# Altium schematic symbol library spacemonochrome-WR_TBL.SchLib: 1696 symbols (part 6 of 28)
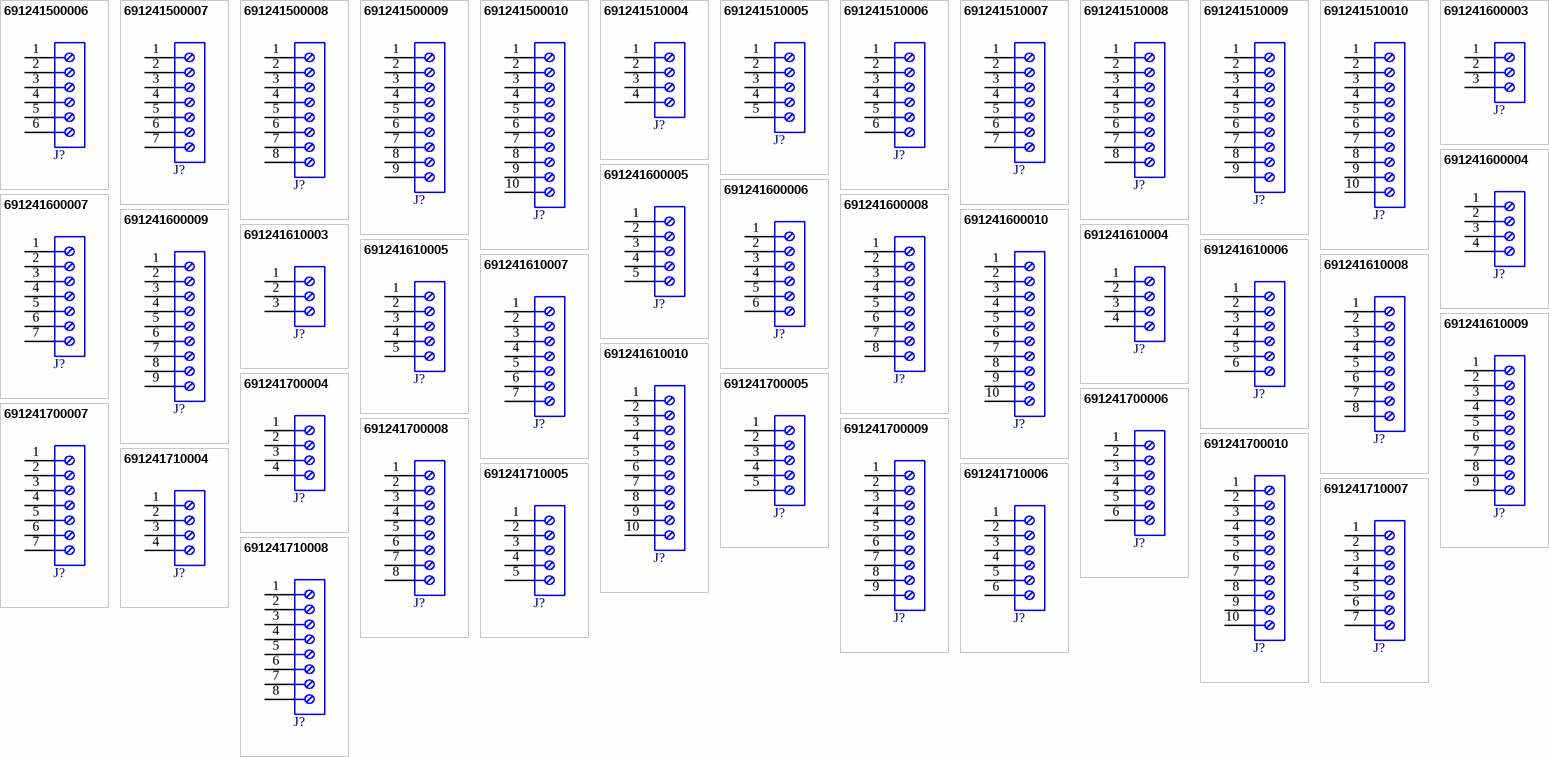
[diagram p47: symbols 691241500006 to 691241710008]

## 691241710004
designator J?  (value not drawn)
WR-TBL Series 2417 Horizontal Entry Modular, THT, pitch 5mm, 4p; Manufacturer: Wurth Elektronik; Modularity: No; Rated Current: 14A; Working Voltage: 300V; ComponentLink1Description: Website Link; ComponentLink1URL: https://www.we-online.com/redexpert/article/691241710004?ad; ComponentLink2Description: Datasheet Link; ComponentLink2URL: https://www.we-online.com/redexpert/spec/691241710004?ad; Manufacturer Part Number: 691241710004; Category: Terminal Blocks; Match Code: WR-TBL; Mount: Through Hole; Operating Temperature Max: 120°C; Operating Temperature Min: -30°C; Packaging: Box; Application: Rising Cage Clamp; Number of Pins: 4; Number of Rows: 1; Orientation: Horizontal; Pitch: 5mm
footprint 691241710004
pins: 1, 2, 3, 4

## 691241710005
designator J?  (value not drawn)
WR-TBL Series 2417 Horizontal Entry Modular, THT, pitch 5mm, 5p; Manufacturer: Wurth Elektronik; Modularity: No; Rated Current: 14A; Working Voltage: 300V; ComponentLink1Description: Website Link; ComponentLink1URL: https://www.we-online.com/redexpert/article/691241710005?ad; ComponentLink2Description: Datasheet Link; ComponentLink2URL: https://www.we-online.com/redexpert/spec/691241710005?ad; Manufacturer Part Number: 691241710005; Category: Terminal Blocks; Match Code: WR-TBL; Mount: Through Hole; Operating Temperature Max: 120°C; Operating Temperature Min: -30°C; Packaging: Box; Application: Rising Cage Clamp; Number of Pins: 5; Number of Rows: 1; Orientation: Horizontal; Pitch: 5mm
footprint 691241710005
pins: 1, 2, 3, 4, 5

## 691241710006
designator J?  (value not drawn)
WR-TBL Series 2417 Horizontal Entry Modular, THT, pitch 5mm, 6p; Manufacturer: Wurth Elektronik; Modularity: No; Rated Current: 14A; Working Voltage: 300V; ComponentLink1Description: Website Link; ComponentLink1URL: https://www.we-online.com/redexpert/article/691241710006?ad; ComponentLink2Description: Datasheet Link; ComponentLink2URL: https://www.we-online.com/redexpert/spec/691241710006?ad; Manufacturer Part Number: 691241710006; Category: Terminal Blocks; Match Code: WR-TBL; Mount: Through Hole; Operating Temperature Max: 120°C; Operating Temperature Min: -30°C; Packaging: Box; Application: Rising Cage Clamp; Number of Pins: 6; Number of Rows: 1; Orientation: Horizontal; Pitch: 5mm
footprint 691241710006
pins: 1, 2, 3, 4, 5, 6

## 691241710007
designator J?  (value not drawn)
WR-TBL Series 2417 Horizontal Entry Modular, THT, pitch 5mm, 7p; Manufacturer: Wurth Elektronik; Modularity: No; Rated Current: 14A; Working Voltage: 300V; ComponentLink1Description: Website Link; ComponentLink1URL: https://www.we-online.com/redexpert/article/691241710007?ad; ComponentLink2Description: Datasheet Link; ComponentLink2URL: https://www.we-online.com/redexpert/spec/691241710007?ad; Manufacturer Part Number: 691241710007; Category: Terminal Blocks; Match Code: WR-TBL; Mount: Through Hole; Operating Temperature Max: 120°C; Operating Temperature Min: -30°C; Packaging: Box; Application: Rising Cage Clamp; Number of Pins: 7; Number of Rows: 1; Orientation: Horizontal; Pitch: 5mm
footprint 691241710007
pins: 1, 2, 3, 4, 5, 6, 7

## 691241710008
designator J?  (value not drawn)
WR-TBL Series 2417 Horizontal Entry Modular, THT, pitch 5mm, 8p; Manufacturer: Wurth Elektronik; Modularity: No; Rated Current: 14A; Working Voltage: 300V; ComponentLink1Description: Website Link; ComponentLink1URL: https://www.we-online.com/redexpert/article/691241710008?ad; ComponentLink2Description: Datasheet Link; ComponentLink2URL: https://www.we-online.com/redexpert/spec/691241710008?ad; Manufacturer Part Number: 691241710008; Category: Terminal Blocks; Match Code: WR-TBL; Mount: Through Hole; Operating Temperature Max: 120°C; Operating Temperature Min: -30°C; Packaging: Box; Application: Rising Cage Clamp; Number of Pins: 8; Number of Rows: 1; Orientation: Horizontal; Pitch: 5mm
footprint 691241710008
pins: 1, 2, 3, 4, 5, 6, 7, 8

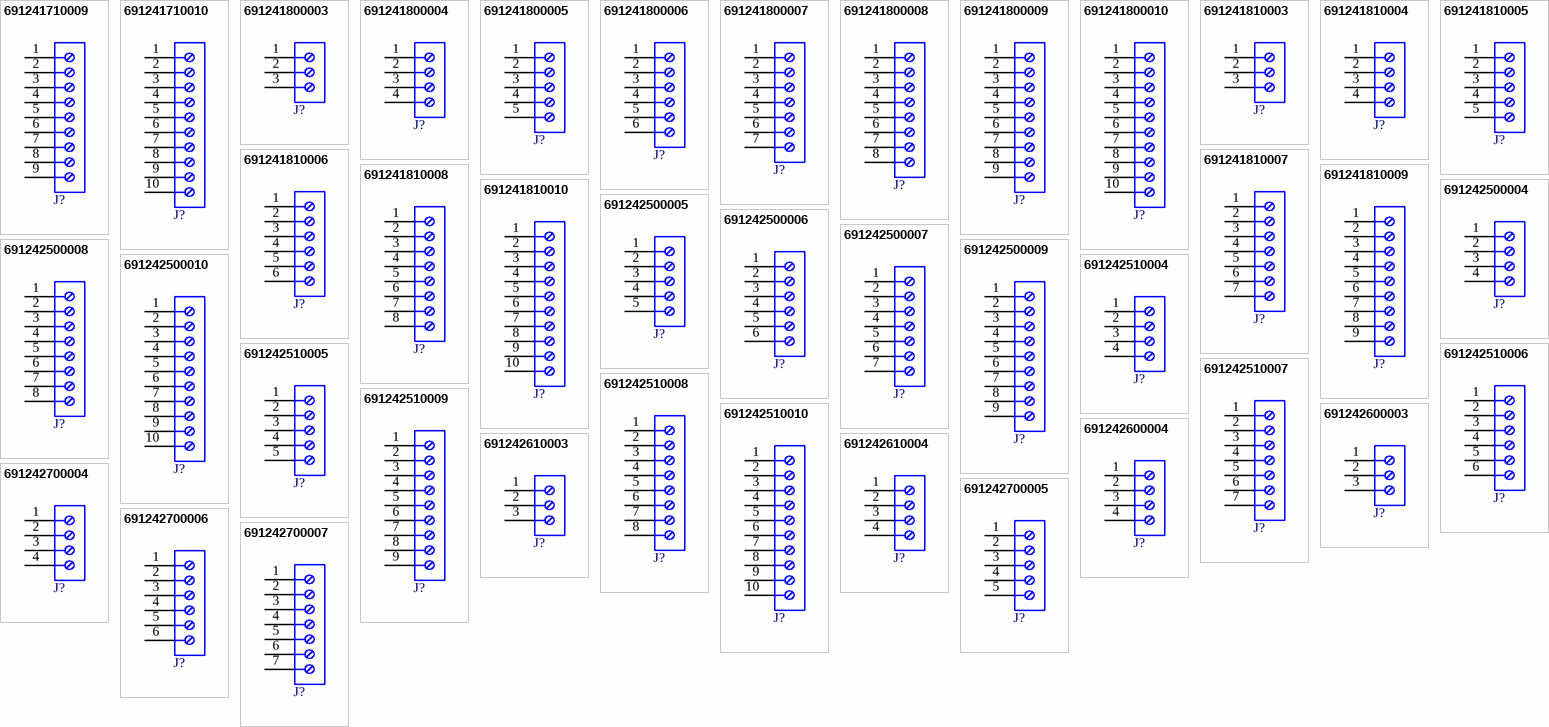
[diagram p8: symbols 691241710009 to 691242700007]

## 691241710009
designator J?  (value not drawn)
WR-TBL Series 2417 Horizontal Entry Modular, THT, pitch 5mm, 9p; Manufacturer: Wurth Elektronik; Modularity: No; Rated Current: 14A; Working Voltage: 300V; ComponentLink1Description: Website Link; ComponentLink1URL: https://www.we-online.com/redexpert/article/691241710009?ad; ComponentLink2Description: Datasheet Link; ComponentLink2URL: https://www.we-online.com/redexpert/spec/691241710009?ad; Manufacturer Part Number: 691241710009; Category: Terminal Blocks; Match Code: WR-TBL; Mount: Through Hole; Operating Temperature Max: 120°C; Operating Temperature Min: -30°C; Packaging: Box; Application: Rising Cage Clamp; Number of Pins: 9; Number of Rows: 1; Orientation: Horizontal; Pitch: 5mm
footprint 691241710009
pins: 1, 2, 3, 4, 5, 6, 7, 8, 9

## 691241710010
designator J?  (value not drawn)
WR-TBL Series 2417 Horizontal Entry Modular, THT, pitch 5mm, 10p; Manufacturer: Wurth Elektronik; Modularity: No; Rated Current: 14A; Working Voltage: 300V; ComponentLink1Description: Website Link; ComponentLink1URL: https://www.we-online.com/redexpert/article/691241710010?ad; ComponentLink2Description: Datasheet Link; ComponentLink2URL: https://www.we-online.com/redexpert/spec/691241710010?ad; Manufacturer Part Number: 691241710010; Category: Terminal Blocks; Match Code: WR-TBL; Mount: Through Hole; Operating Temperature Max: 120°C; Operating Temperature Min: -30°C; Packaging: Box; Application: Rising Cage Clamp; Number of Pins: 10; Number of Rows: 1; Orientation: Horizontal; Pitch: 5mm
footprint 691241710010
pins: 1, 2, 3, 4, 5, 6, 7, 8, 9, 10

## 691241800003
designator J?  (value not drawn)
WR-TBL Series 2418 Vertical Entry, THT, pitch 10mm, 3p; Manufacturer: Wurth Elektronik; Modularity: No; Rated Current: 14A; Working Voltage: 300V; ComponentLink1Description: Website Link; ComponentLink1URL: https://www.we-online.com/redexpert/article/691241800003?ad; ComponentLink2Description: Datasheet Link; ComponentLink2URL: https://www.we-online.com/redexpert/spec/691241800003?ad; Manufacturer Part Number: 691241800003; Category: Terminal Blocks; Match Code: WR-TBL; Mount: Through Hole; Operating Temperature Max: 120°C; Operating Temperature Min: -30°C; Packaging: Box; Application: Rising Cage Clamp; Number of Pins: 3; Number of Rows: 1; Orientation: Vertical; Pitch: 10mm
footprint 691241800003
pins: 1, 2, 3

## 691241800004
designator J?  (value not drawn)
WR-TBL Series 2418 Vertical Entry, THT, pitch 10mm, 4p; Manufacturer: Wurth Elektronik; Modularity: No; Rated Current: 14A; Working Voltage: 300V; ComponentLink1Description: Website Link; ComponentLink1URL: https://www.we-online.com/redexpert/article/691241800004?ad; ComponentLink2Description: Datasheet Link; ComponentLink2URL: https://www.we-online.com/redexpert/spec/691241800004?ad; Manufacturer Part Number: 691241800004; Category: Terminal Blocks; Match Code: WR-TBL; Mount: Through Hole; Operating Temperature Max: 120°C; Operating Temperature Min: -30°C; Packaging: Box; Application: Rising Cage Clamp; Number of Pins: 4; Number of Rows: 1; Orientation: Vertical; Pitch: 10mm
footprint 691241800004
pins: 1, 2, 3, 4

## 691241800005
designator J?  (value not drawn)
WR-TBL Series 2418 Vertical Entry, THT, pitch 10mm, 5p; Manufacturer: Wurth Elektronik; Modularity: No; Rated Current: 14A; Working Voltage: 300V; ComponentLink1Description: Website Link; ComponentLink1URL: https://www.we-online.com/redexpert/article/691241800005?ad; ComponentLink2Description: Datasheet Link; ComponentLink2URL: https://www.we-online.com/redexpert/spec/691241800005?ad; Manufacturer Part Number: 691241800005; Category: Terminal Blocks; Match Code: WR-TBL; Mount: Through Hole; Operating Temperature Max: 120°C; Operating Temperature Min: -30°C; Packaging: Box; Application: Rising Cage Clamp; Number of Pins: 5; Number of Rows: 1; Orientation: Vertical; Pitch: 10mm
footprint 691241800005
pins: 1, 2, 3, 4, 5

## 691241800006
designator J?  (value not drawn)
WR-TBL Series 2418 Vertical Entry, THT, pitch 10mm, 6p; Manufacturer: Wurth Elektronik; Modularity: No; Rated Current: 14A; Working Voltage: 300V; ComponentLink1Description: Website Link; ComponentLink1URL: https://www.we-online.com/redexpert/article/691241800006?ad; ComponentLink2Description: Datasheet Link; ComponentLink2URL: https://www.we-online.com/redexpert/spec/691241800006?ad; Manufacturer Part Number: 691241800006; Category: Terminal Blocks; Match Code: WR-TBL; Mount: Through Hole; Operating Temperature Max: 120°C; Operating Temperature Min: -30°C; Packaging: Box; Application: Rising Cage Clamp; Number of Pins: 6; Number of Rows: 1; Orientation: Vertical; Pitch: 10mm
footprint 691241800006
pins: 1, 2, 3, 4, 5, 6

## 691241800007
designator J?  (value not drawn)
WR-TBL Series 2418 Vertical Entry, THT, pitch 10mm, 7p; Manufacturer: Wurth Elektronik; Modularity: No; Rated Current: 14A; Working Voltage: 300V; ComponentLink1Description: Website Link; ComponentLink1URL: https://www.we-online.com/redexpert/article/691241800007?ad; ComponentLink2Description: Datasheet Link; ComponentLink2URL: https://www.we-online.com/redexpert/spec/691241800007?ad; Manufacturer Part Number: 691241800007; Category: Terminal Blocks; Match Code: WR-TBL; Mount: Through Hole; Operating Temperature Max: 120°C; Operating Temperature Min: -30°C; Packaging: Box; Application: Rising Cage Clamp; Number of Pins: 7; Number of Rows: 1; Orientation: Vertical; Pitch: 10mm
footprint 691241800007
pins: 1, 2, 3, 4, 5, 6, 7

## 691241800008
designator J?  (value not drawn)
WR-TBL Series 2418 Vertical Entry, THT, pitch 10mm, 8p; Manufacturer: Wurth Elektronik; Modularity: No; Rated Current: 14A; Working Voltage: 300V; ComponentLink1Description: Website Link; ComponentLink1URL: https://www.we-online.com/redexpert/article/691241800008?ad; ComponentLink2Description: Datasheet Link; ComponentLink2URL: https://www.we-online.com/redexpert/spec/691241800008?ad; Manufacturer Part Number: 691241800008; Category: Terminal Blocks; Match Code: WR-TBL; Mount: Through Hole; Operating Temperature Max: 120°C; Operating Temperature Min: -30°C; Packaging: Box; Application: Rising Cage Clamp; Number of Pins: 8; Number of Rows: 1; Orientation: Vertical; Pitch: 10mm
footprint 691241800008
pins: 1, 2, 3, 4, 5, 6, 7, 8

## 691241800009
designator J?  (value not drawn)
WR-TBL Series 2418 Vertical Entry, THT, pitch 10mm, 9p; Manufacturer: Wurth Elektronik; Modularity: No; Rated Current: 14A; Working Voltage: 300V; ComponentLink1Description: Website Link; ComponentLink1URL: https://www.we-online.com/redexpert/article/691241800009?ad; ComponentLink2Description: Datasheet Link; ComponentLink2URL: https://www.we-online.com/redexpert/spec/691241800009?ad; Manufacturer Part Number: 691241800009; Category: Terminal Blocks; Match Code: WR-TBL; Mount: Through Hole; Operating Temperature Max: 120°C; Operating Temperature Min: -30°C; Packaging: Box; Application: Rising Cage Clamp; Number of Pins: 9; Number of Rows: 1; Orientation: Vertical; Pitch: 10mm
footprint 691241800009
pins: 1, 2, 3, 4, 5, 6, 7, 8, 9

## 691241800010
designator J?  (value not drawn)
WR-TBL Series 2418 Vertical Entry, THT, pitch 10mm, 10p; Manufacturer: Wurth Elektronik; Modularity: No; Rated Current: 14A; Working Voltage: 300V; ComponentLink1Description: Website Link; ComponentLink1URL: https://www.we-online.com/redexpert/article/691241800010?ad; ComponentLink2Description: Datasheet Link; ComponentLink2URL: https://www.we-online.com/redexpert/spec/691241800010?ad; Manufacturer Part Number: 691241800010; Category: Terminal Blocks; Match Code: WR-TBL; Mount: Through Hole; Operating Temperature Max: 120°C; Operating Temperature Min: -30°C; Packaging: Box; Application: Rising Cage Clamp; Number of Pins: 10; Number of Rows: 1; Orientation: Vertical; Pitch: 10mm
footprint 691241800010
pins: 1, 2, 3, 4, 5, 6, 7, 8, 9, 10

## 691241810003
designator J?  (value not drawn)
WR-TBL Series 2418 Horizontal Entry, THT, pitch 10mm, 3p; Manufacturer: Wurth Elektronik; Modularity: No; Rated Current: 14A; Working Voltage: 300V; ComponentLink1Description: Website Link; ComponentLink1URL: https://www.we-online.com/redexpert/article/691241810003?ad; ComponentLink2Description: Datasheet Link; ComponentLink2URL: https://www.we-online.com/redexpert/spec/691241810003?ad; Manufacturer Part Number: 691241810003; Category: Terminal Blocks; Match Code: WR-TBL; Mount: Through Hole; Operating Temperature Max: 120°C; Operating Temperature Min: -30°C; Packaging: Box; Application: Rising Cage Clamp; Number of Pins: 3; Number of Rows: 1; Orientation: Horizontal; Pitch: 10mm
footprint 691241810003
pins: 1, 2, 3

## 691241810004
designator J?  (value not drawn)
WR-TBL Series 2418 Horizontal Entry, THT, pitch 10mm, 4p; Manufacturer: Wurth Elektronik; Modularity: No; Rated Current: 14A; Working Voltage: 300V; ComponentLink1Description: Website Link; ComponentLink1URL: https://www.we-online.com/redexpert/article/691241810004?ad; ComponentLink2Description: Datasheet Link; ComponentLink2URL: https://www.we-online.com/redexpert/spec/691241810004?ad; Manufacturer Part Number: 691241810004; Category: Terminal Blocks; Match Code: WR-TBL; Mount: Through Hole; Operating Temperature Max: 120°C; Operating Temperature Min: -30°C; Packaging: Box; Application: Rising Cage Clamp; Number of Pins: 4; Number of Rows: 1; Orientation: Horizontal; Pitch: 10mm
footprint 691241810004
pins: 1, 2, 3, 4

## 691241810005
designator J?  (value not drawn)
WR-TBL Series 2418 Horizontal Entry, THT, pitch 10mm, 5p; Manufacturer: Wurth Elektronik; Modularity: No; Rated Current: 14A; Working Voltage: 300V; ComponentLink1Description: Website Link; ComponentLink1URL: https://www.we-online.com/redexpert/article/691241810005?ad; ComponentLink2Description: Datasheet Link; ComponentLink2URL: https://www.we-online.com/redexpert/spec/691241810005?ad; Manufacturer Part Number: 691241810005; Category: Terminal Blocks; Match Code: WR-TBL; Mount: Through Hole; Operating Temperature Max: 120°C; Operating Temperature Min: -30°C; Packaging: Box; Application: Rising Cage Clamp; Number of Pins: 5; Number of Rows: 1; Orientation: Horizontal; Pitch: 10mm
footprint 691241810005
pins: 1, 2, 3, 4, 5

## 691241810006
designator J?  (value not drawn)
WR-TBL Series 2418 Horizontal Entry, THT, pitch 10mm, 6p; Manufacturer: Wurth Elektronik; Modularity: No; Rated Current: 14A; Working Voltage: 300V; ComponentLink1Description: Website Link; ComponentLink1URL: https://www.we-online.com/redexpert/article/691241810006?ad; ComponentLink2Description: Datasheet Link; ComponentLink2URL: https://www.we-online.com/redexpert/spec/691241810006?ad; Manufacturer Part Number: 691241810006; Category: Terminal Blocks; Match Code: WR-TBL; Mount: Through Hole; Operating Temperature Max: 120°C; Operating Temperature Min: -30°C; Packaging: Box; Application: Rising Cage Clamp; Number of Pins: 6; Number of Rows: 1; Orientation: Horizontal; Pitch: 10mm
footprint 691241810006
pins: 1, 2, 3, 4, 5, 6

## 691241810007
designator J?  (value not drawn)
WR-TBL Series 2418 Horizontal Entry, THT, pitch 10mm, 7p; Manufacturer: Wurth Elektronik; Modularity: No; Rated Current: 14A; Working Voltage: 300V; ComponentLink1Description: Website Link; ComponentLink1URL: https://www.we-online.com/redexpert/article/691241810007?ad; ComponentLink2Description: Datasheet Link; ComponentLink2URL: https://www.we-online.com/redexpert/spec/691241810007?ad; Manufacturer Part Number: 691241810007; Category: Terminal Blocks; Match Code: WR-TBL; Mount: Through Hole; Operating Temperature Max: 120°C; Operating Temperature Min: -30°C; Packaging: Box; Application: Rising Cage Clamp; Number of Pins: 7; Number of Rows: 1; Orientation: Horizontal; Pitch: 10mm
footprint 691241810007
pins: 1, 2, 3, 4, 5, 6, 7

## 691241810008
designator J?  (value not drawn)
WR-TBL Series 2418 Horizontal Entry, THT, pitch 10mm, 8p; Manufacturer: Wurth Elektronik; Modularity: No; Rated Current: 14A; Working Voltage: 300V; ComponentLink1Description: Website Link; ComponentLink1URL: https://www.we-online.com/redexpert/article/691241810008?ad; ComponentLink2Description: Datasheet Link; ComponentLink2URL: https://www.we-online.com/redexpert/spec/691241810008?ad; Manufacturer Part Number: 691241810008; Category: Terminal Blocks; Match Code: WR-TBL; Mount: Through Hole; Operating Temperature Max: 120°C; Operating Temperature Min: -30°C; Packaging: Box; Application: Rising Cage Clamp; Number of Pins: 8; Number of Rows: 1; Orientation: Horizontal; Pitch: 10mm
footprint 691241810008
pins: 1, 2, 3, 4, 5, 6, 7, 8

## 691241810009
designator J?  (value not drawn)
WR-TBL Series 2418 Horizontal Entry, THT, pitch 10mm, 9p; Manufacturer: Wurth Elektronik; Modularity: No; Rated Current: 14A; Working Voltage: 300V; ComponentLink1Description: Website Link; ComponentLink1URL: https://www.we-online.com/redexpert/article/691241810009?ad; ComponentLink2Description: Datasheet Link; ComponentLink2URL: https://www.we-online.com/redexpert/spec/691241810009?ad; Manufacturer Part Number: 691241810009; Category: Terminal Blocks; Match Code: WR-TBL; Mount: Through Hole; Operating Temperature Max: 120°C; Operating Temperature Min: -30°C; Packaging: Box; Application: Rising Cage Clamp; Number of Pins: 9; Number of Rows: 1; Orientation: Horizontal; Pitch: 10mm
footprint 691241810009
pins: 1, 2, 3, 4, 5, 6, 7, 8, 9

## 691241810010
designator J?  (value not drawn)
WR-TBL Series 2418 Horizontal Entry, THT, pitch 10mm, 10p; Manufacturer: Wurth Elektronik; Modularity: No; Rated Current: 14A; Working Voltage: 300V; ComponentLink1Description: Website Link; ComponentLink1URL: https://www.we-online.com/redexpert/article/691241810010?ad; ComponentLink2Description: Datasheet Link; ComponentLink2URL: https://www.we-online.com/redexpert/spec/691241810010?ad; Manufacturer Part Number: 691241810010; Category: Terminal Blocks; Match Code: WR-TBL; Mount: Through Hole; Operating Temperature Max: 120°C; Operating Temperature Min: -30°C; Packaging: Box; Application: Rising Cage Clamp; Number of Pins: 10; Number of Rows: 1; Orientation: Horizontal; Pitch: 10mm
footprint 691241810010
pins: 1, 2, 3, 4, 5, 6, 7, 8, 9, 10

## 691242500004
designator J?  (value not drawn)
WR-TBL Series 2425 Vertical Entry, THT, pitch 5.08mm, 4p; Manufacturer: Wurth Elektronik; Modularity: No; Rated Current: 14A; Working Voltage: 300V; ComponentLink1Description: Website Link; ComponentLink1URL: https://www.we-online.com/redexpert/article/691242500004?ad; ComponentLink2Description: Datasheet Link; ComponentLink2URL: https://www.we-online.com/redexpert/spec/691242500004?ad; Manufacturer Part Number: 691242500004; Category: Terminal Blocks; Match Code: WR-TBL; Mount: Through Hole; Operating Temperature Max: 120°C; Operating Temperature Min: -30°C; Packaging: Box; Application: Rising Cage Clamp; Number of Pins: 4; Number of Rows: 1; Orientation: Vertical; Pitch: 5.08mm
footprint 691242500004
pins: 1, 2, 3, 4

## 691242500005
designator J?  (value not drawn)
WR-TBL Series 2425 Vertical Entry, THT, pitch 5.08mm, 5p; Manufacturer: Wurth Elektronik; Modularity: No; Rated Current: 14A; Working Voltage: 300V; ComponentLink1Description: Website Link; ComponentLink1URL: https://www.we-online.com/redexpert/article/691242500005?ad; ComponentLink2Description: Datasheet Link; ComponentLink2URL: https://www.we-online.com/redexpert/spec/691242500005?ad; Manufacturer Part Number: 691242500005; Category: Terminal Blocks; Match Code: WR-TBL; Mount: Through Hole; Operating Temperature Max: 120°C; Operating Temperature Min: -30°C; Packaging: Box; Application: Rising Cage Clamp; Number of Pins: 5; Number of Rows: 1; Orientation: Vertical; Pitch: 5.08mm
footprint 691242500005
pins: 1, 2, 3, 4, 5

## 691242500006
designator J?  (value not drawn)
WR-TBL Series 2425 Vertical Entry, THT, pitch 5.08mm, 6p; Manufacturer: Wurth Elektronik; Modularity: No; Rated Current: 14A; Working Voltage: 300V; ComponentLink1Description: Website Link; ComponentLink1URL: https://www.we-online.com/redexpert/article/691242500006?ad; ComponentLink2Description: Datasheet Link; ComponentLink2URL: https://www.we-online.com/redexpert/spec/691242500006?ad; Manufacturer Part Number: 691242500006; Category: Terminal Blocks; Match Code: WR-TBL; Mount: Through Hole; Operating Temperature Max: 120°C; Operating Temperature Min: -30°C; Packaging: Box; Application: Rising Cage Clamp; Number of Pins: 6; Number of Rows: 1; Orientation: Vertical; Pitch: 5.08mm
footprint 691242500006
pins: 1, 2, 3, 4, 5, 6

## 691242500007
designator J?  (value not drawn)
WR-TBL Series 2425 Vertical Entry, THT, pitch 5.08mm, 7p; Manufacturer: Wurth Elektronik; Modularity: No; Rated Current: 14A; Working Voltage: 300V; ComponentLink1Description: Website Link; ComponentLink1URL: https://www.we-online.com/redexpert/article/691242500007?ad; ComponentLink2Description: Datasheet Link; ComponentLink2URL: https://www.we-online.com/redexpert/spec/691242500007?ad; Manufacturer Part Number: 691242500007; Category: Terminal Blocks; Match Code: WR-TBL; Mount: Through Hole; Operating Temperature Max: 120°C; Operating Temperature Min: -30°C; Packaging: Box; Application: Rising Cage Clamp; Number of Pins: 7; Number of Rows: 1; Orientation: Vertical; Pitch: 5.08mm
footprint 691242500007
pins: 1, 2, 3, 4, 5, 6, 7

## 691242500008
designator J?  (value not drawn)
WR-TBL Series 2425 Vertical Entry, THT, pitch 5.08mm, 8p; Manufacturer: Wurth Elektronik; Modularity: No; Rated Current: 14A; Working Voltage: 300V; ComponentLink1Description: Website Link; ComponentLink1URL: https://www.we-online.com/redexpert/article/691242500008?ad; ComponentLink2Description: Datasheet Link; ComponentLink2URL: https://www.we-online.com/redexpert/spec/691242500008?ad; Manufacturer Part Number: 691242500008; Category: Terminal Blocks; Match Code: WR-TBL; Mount: Through Hole; Operating Temperature Max: 120°C; Operating Temperature Min: -30°C; Packaging: Box; Application: Rising Cage Clamp; Number of Pins: 8; Number of Rows: 1; Orientation: Vertical; Pitch: 5.08mm
footprint 691242500008
pins: 1, 2, 3, 4, 5, 6, 7, 8

## 691242500009
designator J?  (value not drawn)
WR-TBL Series 2425 Vertical Entry, THT, pitch 5.08mm, 9p; Manufacturer: Wurth Elektronik; Modularity: No; Rated Current: 14A; Working Voltage: 300V; ComponentLink1Description: Website Link; ComponentLink1URL: https://www.we-online.com/redexpert/article/691242500009?ad; ComponentLink2Description: Datasheet Link; ComponentLink2URL: https://www.we-online.com/redexpert/spec/691242500009?ad; Manufacturer Part Number: 691242500009; Category: Terminal Blocks; Match Code: WR-TBL; Mount: Through Hole; Operating Temperature Max: 120°C; Operating Temperature Min: -30°C; Packaging: Box; Application: Rising Cage Clamp; Number of Pins: 9; Number of Rows: 1; Orientation: Vertical; Pitch: 5.08mm
footprint 691242500009
pins: 1, 2, 3, 4, 5, 6, 7, 8, 9

## 691242500010
designator J?  (value not drawn)
WR-TBL Series 2425 Vertical Entry, THT, pitch 5.08mm, 10p; Manufacturer: Wurth Elektronik; Modularity: No; Rated Current: 14A; Working Voltage: 300V; ComponentLink1Description: Website Link; ComponentLink1URL: https://www.we-online.com/redexpert/article/691242500010?ad; ComponentLink2Description: Datasheet Link; ComponentLink2URL: https://www.we-online.com/redexpert/spec/691242500010?ad; Manufacturer Part Number: 691242500010; Category: Terminal Blocks; Match Code: WR-TBL; Mount: Through Hole; Operating Temperature Max: 120°C; Operating Temperature Min: -30°C; Packaging: Box; Application: Rising Cage Clamp; Number of Pins: 10; Number of Rows: 1; Orientation: Vertical; Pitch: 5.08mm
footprint 691242500010
pins: 1, 2, 3, 4, 5, 6, 7, 8, 9, 10

## 691242510004
designator J?  (value not drawn)
WR-TBL Series 2425 Horizontal Entry Modular, THT, pitch 5.08mm, 4p; Manufacturer: Wurth Elektronik; Modularity: No; Rated Current: 14A; Working Voltage: 300V; ComponentLink1Description: Website Link; ComponentLink1URL: https://www.we-online.com/redexpert/article/691242510004?ad; ComponentLink2Description: Datasheet Link; ComponentLink2URL: https://www.we-online.com/redexpert/spec/691242510004?ad; Manufacturer Part Number: 691242510004; Category: Terminal Blocks; Match Code: WR-TBL; Mount: Through Hole; Operating Temperature Max: 120°C; Operating Temperature Min: -30°C; Packaging: Box; Application: Rising Cage Clamp; Number of Pins: 4; Number of Rows: 1; Orientation: Horizontal; Pitch: 5.08mm
footprint 691242510004
pins: 1, 2, 3, 4

## 691242510005
designator J?  (value not drawn)
WR-TBL Series 2425 Horizontal Entry Modular, THT, pitch 5.08mm, 5p; Manufacturer: Wurth Elektronik; Modularity: No; Rated Current: 14A; Working Voltage: 300V; ComponentLink1Description: Website Link; ComponentLink1URL: https://www.we-online.com/redexpert/article/691242510005?ad; ComponentLink2Description: Datasheet Link; ComponentLink2URL: https://www.we-online.com/redexpert/spec/691242510005?ad; Manufacturer Part Number: 691242510005; Category: Terminal Blocks; Match Code: WR-TBL; Mount: Through Hole; Operating Temperature Max: 120°C; Operating Temperature Min: -30°C; Packaging: Box; Application: Rising Cage Clamp; Number of Pins: 5; Number of Rows: 1; Orientation: Horizontal; Pitch: 5.08mm
footprint 691242510005
pins: 1, 2, 3, 4, 5

## 691242510006
designator J?  (value not drawn)
WR-TBL Series 2425 Horizontal Entry Modular, THT, pitch 5.08mm, 6p; Manufacturer: Wurth Elektronik; Modularity: No; Rated Current: 14A; Working Voltage: 300V; ComponentLink1Description: Website Link; ComponentLink1URL: https://www.we-online.com/redexpert/article/691242510006?ad; ComponentLink2Description: Datasheet Link; ComponentLink2URL: https://www.we-online.com/redexpert/spec/691242510006?ad; Manufacturer Part Number: 691242510006; Category: Terminal Blocks; Match Code: WR-TBL; Mount: Through Hole; Operating Temperature Max: 120°C; Operating Temperature Min: -30°C; Packaging: Box; Application: Rising Cage Clamp; Number of Pins: 6; Number of Rows: 1; Orientation: Horizontal; Pitch: 5.08mm
footprint 691242510006
pins: 1, 2, 3, 4, 5, 6

## 691242510007
designator J?  (value not drawn)
WR-TBL Series 2425 Horizontal Entry Modular, THT, pitch 5.08mm, 7p; Manufacturer: Wurth Elektronik; Modularity: No; Rated Current: 14A; Working Voltage: 300V; ComponentLink1Description: Website Link; ComponentLink1URL: https://www.we-online.com/redexpert/article/691242510007?ad; ComponentLink2Description: Datasheet Link; ComponentLink2URL: https://www.we-online.com/redexpert/spec/691242510007?ad; Manufacturer Part Number: 691242510007; Category: Terminal Blocks; Match Code: WR-TBL; Mount: Through Hole; Operating Temperature Max: 120°C; Operating Temperature Min: -30°C; Packaging: Box; Application: Rising Cage Clamp; Number of Pins: 7; Number of Rows: 1; Orientation: Horizontal; Pitch: 5.08mm
footprint 691242510007
pins: 1, 2, 3, 4, 5, 6, 7

## 691242510008
designator J?  (value not drawn)
WR-TBL Series 2425 Horizontal Entry Modular, THT, pitch 5.08mm, 8p; Manufacturer: Wurth Elektronik; Modularity: No; Rated Current: 14A; Working Voltage: 300V; ComponentLink1Description: Website Link; ComponentLink1URL: https://www.we-online.com/redexpert/article/691242510008?ad; ComponentLink2Description: Datasheet Link; ComponentLink2URL: https://www.we-online.com/redexpert/spec/691242510008?ad; Manufacturer Part Number: 691242510008; Category: Terminal Blocks; Match Code: WR-TBL; Mount: Through Hole; Operating Temperature Max: 120°C; Operating Temperature Min: -30°C; Packaging: Box; Application: Rising Cage Clamp; Number of Pins: 8; Number of Rows: 1; Orientation: Horizontal; Pitch: 5.08mm
footprint 691242510008
pins: 1, 2, 3, 4, 5, 6, 7, 8

## 691242510009
designator J?  (value not drawn)
WR-TBL Series 2425 Horizontal Entry Modular, THT, pitch 5.08mm, 9p; Manufacturer: Wurth Elektronik; Modularity: No; Rated Current: 14A; Working Voltage: 300V; ComponentLink1Description: Website Link; ComponentLink1URL: https://www.we-online.com/redexpert/article/691242510009?ad; ComponentLink2Description: Datasheet Link; ComponentLink2URL: https://www.we-online.com/redexpert/spec/691242510009?ad; Manufacturer Part Number: 691242510009; Category: Terminal Blocks; Match Code: WR-TBL; Mount: Through Hole; Operating Temperature Max: 120°C; Operating Temperature Min: -30°C; Packaging: Box; Application: Rising Cage Clamp; Number of Pins: 9; Number of Rows: 1; Orientation: Horizontal; Pitch: 5.08mm
footprint 691242510009
pins: 1, 2, 3, 4, 5, 6, 7, 8, 9

## 691242510010
designator J?  (value not drawn)
WR-TBL Series 2425 Horizontal Entry Modular, THT, pitch 5.08mm, 10p; Manufacturer: Wurth Elektronik; Modularity: No; Rated Current: 14A; Working Voltage: 300V; ComponentLink1Description: Website Link; ComponentLink1URL: https://www.we-online.com/redexpert/article/691242510010?ad; ComponentLink2Description: Datasheet Link; ComponentLink2URL: https://www.we-online.com/redexpert/spec/691242510010?ad; Manufacturer Part Number: 691242510010; Category: Terminal Blocks; Match Code: WR-TBL; Mount: Through Hole; Operating Temperature Max: 120°C; Operating Temperature Min: -30°C; Packaging: Box; Application: Rising Cage Clamp; Number of Pins: 10; Number of Rows: 1; Orientation: Horizontal; Pitch: 5.08mm
footprint 691242510010
pins: 1, 2, 3, 4, 5, 6, 7, 8, 9, 10

## 691242600003
designator J?  (value not drawn)
WR-TBL Series 2426 Vertical Entry Modular, THT, pitch 10.16mm, 3p; Manufacturer: Wurth Elektronik; Modularity: No; Rated Current: 14A; Working Voltage: 300V; ComponentLink1Description: Website Link; ComponentLink1URL: https://www.we-online.com/redexpert/article/691242600003?ad; ComponentLink2Description: Datasheet Link; ComponentLink2URL: https://www.we-online.com/redexpert/spec/691242600003?ad; Manufacturer Part Number: 691242600003; Category: Terminal Blocks; Match Code: WR-TBL; Mount: Through Hole; Operating Temperature Max: 120°C; Operating Temperature Min: -30°C; Packaging: Box; Application: Rising Cage Clamp; Number of Pins: 3; Number of Rows: 1; Orientation: Vertical; Pitch: 10.16mm
footprint 691242600003
pins: 1, 2, 3

## 691242600004
designator J?  (value not drawn)
WR-TBL Series 2426 Vertical Entry Modular, THT, pitch 10.16mm, 4p; Manufacturer: Wurth Elektronik; Modularity: No; Rated Current: 14A; Working Voltage: 300V; ComponentLink1Description: Website Link; ComponentLink1URL: https://www.we-online.com/redexpert/article/691242600004?ad; ComponentLink2Description: Datasheet Link; ComponentLink2URL: https://www.we-online.com/redexpert/spec/691242600004?ad; Manufacturer Part Number: 691242600004; Category: Terminal Blocks; Match Code: WR-TBL; Mount: Through Hole; Operating Temperature Max: 120°C; Operating Temperature Min: -30°C; Packaging: Box; Application: Rising Cage Clamp; Number of Pins: 4; Number of Rows: 1; Orientation: Vertical; Pitch: 10.16mm
footprint 691242600004
pins: 1, 2, 3, 4

## 691242610003
designator J?  (value not drawn)
WR-TBL Series 2426 Horizontal Entry Modular, THT, pitch 10.16mm, 3p; Manufacturer: Wurth Elektronik; Modularity: Yes; Rated Current: 14A; Working Voltage: 300V; ComponentLink1Description: Website Link; ComponentLink1URL: https://www.we-online.com/redexpert/article/691242610003?ad; ComponentLink2Description: Datasheet Link; ComponentLink2URL: https://www.we-online.com/redexpert/spec/691242610003?ad; Manufacturer Part Number: 691242610003; Category: Terminal Blocks; Match Code: WR-TBL; Mount: Through Hole; Operating Temperature Max: 120°C; Operating Temperature Min: -30°C; Packaging: Box; Application: Rising Cage Clamp; Number of Pins: 3; Number of Rows: 1; Orientation: Horizontal; Pitch: 10.16mm
footprint 691242610003
pins: 1, 2, 3

## 691242610004
designator J?  (value not drawn)
WR-TBL Series 2426 Horizontal Entry Modular, THT, pitch 10.16mm, 4p; Manufacturer: Wurth Elektronik; Modularity: Yes; Rated Current: 14A; Working Voltage: 300V; ComponentLink1Description: Website Link; ComponentLink1URL: https://www.we-online.com/redexpert/article/691242610004?ad; ComponentLink2Description: Datasheet Link; ComponentLink2URL: https://www.we-online.com/redexpert/spec/691242610004?ad; Manufacturer Part Number: 691242610004; Category: Terminal Blocks; Match Code: WR-TBL; Mount: Through Hole; Operating Temperature Max: 120°C; Operating Temperature Min: -30°C; Packaging: Box; Application: Rising Cage Clamp; Number of Pins: 4; Number of Rows: 1; Orientation: Horizontal; Pitch: 10.16mm
footprint 691242610004
pins: 1, 2, 3, 4

## 691242700004
designator J?  (value not drawn)
WR-TBL Series 2427 Vertical Entry, THT, pitch 5mm, 4p; Manufacturer: Wurth Elektronik; Modularity: No; Rated Current: 14A; Working Voltage: 300V; ComponentLink1Description: Website Link; ComponentLink1URL: https://www.we-online.com/redexpert/article/691242700004?ad; ComponentLink2Description: Datasheet Link; ComponentLink2URL: https://www.we-online.com/redexpert/spec/691242700004?ad; Manufacturer Part Number: 691242700004; Category: Terminal Blocks; Match Code: WR-TBL; Mount: Through Hole; Operating Temperature Max: 120°C; Operating Temperature Min: -30°C; Packaging: Box; Application: Rising Cage Clamp; Number of Pins: 4; Number of Rows: 1; Orientation: Vertical; Pitch: 5mm
footprint 691242700004
pins: 1, 2, 3, 4

## 691242700005
designator J?  (value not drawn)
WR-TBL Series 2427 Vertical Entry, THT, pitch 5mm, 5p; Manufacturer: Wurth Elektronik; Modularity: No; Rated Current: 14A; Working Voltage: 300V; ComponentLink1Description: Website Link; ComponentLink1URL: https://www.we-online.com/redexpert/article/691242700005?ad; ComponentLink2Description: Datasheet Link; ComponentLink2URL: https://www.we-online.com/redexpert/spec/691242700005?ad; Manufacturer Part Number: 691242700005; Category: Terminal Blocks; Match Code: WR-TBL; Mount: Through Hole; Operating Temperature Max: 120°C; Operating Temperature Min: -30°C; Packaging: Box; Application: Rising Cage Clamp; Number of Pins: 5; Number of Rows: 1; Orientation: Vertical; Pitch: 5mm
footprint 691242700005
pins: 1, 2, 3, 4, 5

## 691242700006
designator J?  (value not drawn)
WR-TBL Series 2427 Vertical Entry, THT, pitch 5mm, 6p; Manufacturer: Wurth Elektronik; Modularity: No; Rated Current: 14A; Working Voltage: 300V; ComponentLink1Description: Website Link; ComponentLink1URL: https://www.we-online.com/redexpert/article/691242700006?ad; ComponentLink2Description: Datasheet Link; ComponentLink2URL: https://www.we-online.com/redexpert/spec/691242700006?ad; Manufacturer Part Number: 691242700006; Category: Terminal Blocks; Match Code: WR-TBL; Mount: Through Hole; Operating Temperature Max: 120°C; Operating Temperature Min: -30°C; Packaging: Box; Application: Rising Cage Clamp; Number of Pins: 6; Number of Rows: 1; Orientation: Vertical; Pitch: 5mm
footprint 691242700006
pins: 1, 2, 3, 4, 5, 6

## 691242700007
designator J?  (value not drawn)
WR-TBL Series 2427 Vertical Entry, THT, pitch 5mm, 7p; Manufacturer: Wurth Elektronik; Modularity: No; Rated Current: 14A; Working Voltage: 300V; ComponentLink1Description: Website Link; ComponentLink1URL: https://www.we-online.com/redexpert/article/691242700007?ad; ComponentLink2Description: Datasheet Link; ComponentLink2URL: https://www.we-online.com/redexpert/spec/691242700007?ad; Manufacturer Part Number: 691242700007; Category: Terminal Blocks; Match Code: WR-TBL; Mount: Through Hole; Operating Temperature Max: 120°C; Operating Temperature Min: -30°C; Packaging: Box; Application: Rising Cage Clamp; Number of Pins: 7; Number of Rows: 1; Orientation: Vertical; Pitch: 5mm
footprint 691242700007
pins: 1, 2, 3, 4, 5, 6, 7

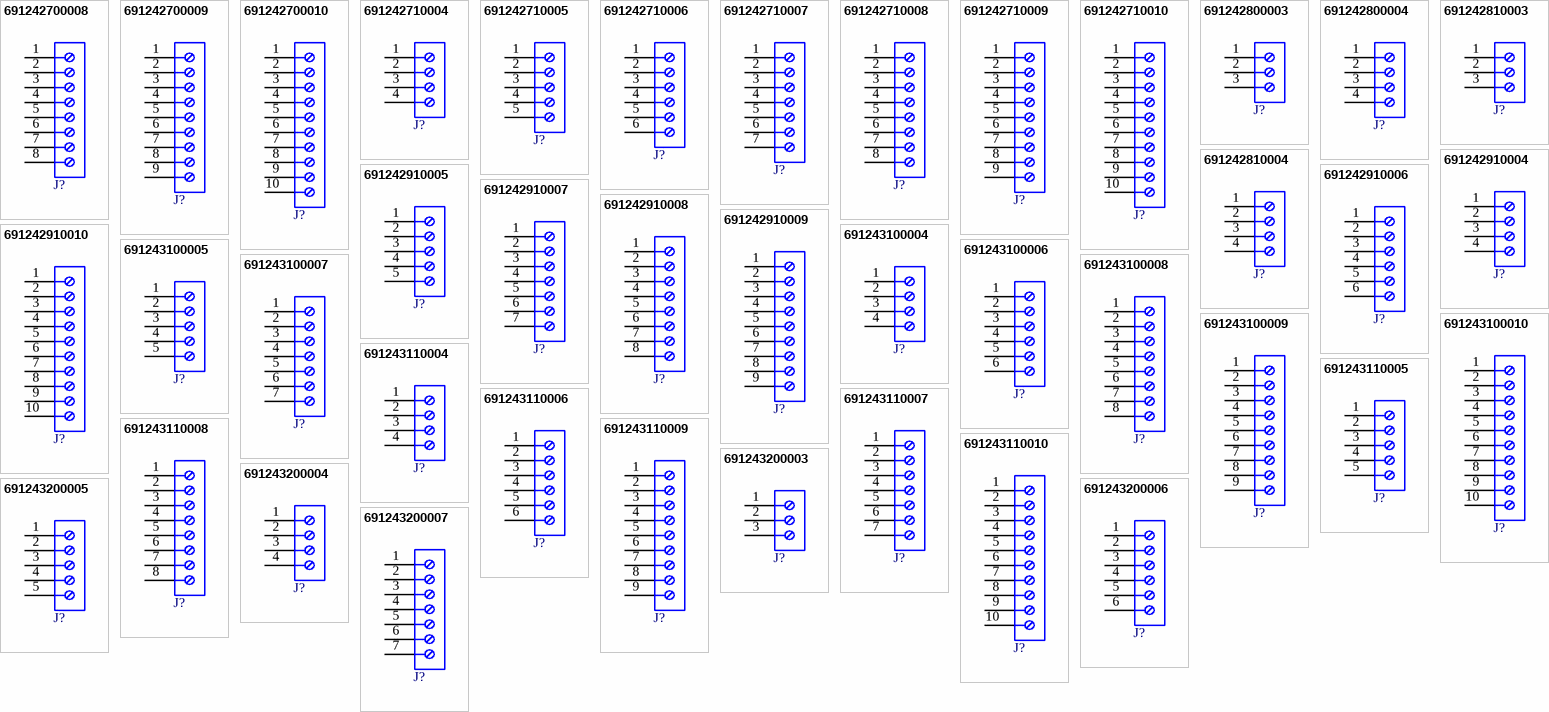
[diagram p9: symbols 691242700008 to 691243200007]

## 691242700008
designator J?  (value not drawn)
WR-TBL Series 2427 Vertical Entry, THT, pitch 5mm, 8p; Manufacturer: Wurth Elektronik; Modularity: No; Rated Current: 14A; Working Voltage: 300V; ComponentLink1Description: Website Link; ComponentLink1URL: https://www.we-online.com/redexpert/article/691242700008?ad; ComponentLink2Description: Datasheet Link; ComponentLink2URL: https://www.we-online.com/redexpert/spec/691242700008?ad; Manufacturer Part Number: 691242700008; Category: Terminal Blocks; Match Code: WR-TBL; Mount: Through Hole; Operating Temperature Max: 120°C; Operating Temperature Min: -30°C; Packaging: Box; Application: Rising Cage Clamp; Number of Pins: 8; Number of Rows: 1; Orientation: Vertical; Pitch: 5mm
footprint 691242700008
pins: 1, 2, 3, 4, 5, 6, 7, 8

## 691242700009
designator J?  (value not drawn)
WR-TBL Series 2427 Vertical Entry, THT, pitch 5mm, 9p; Manufacturer: Wurth Elektronik; Modularity: No; Rated Current: 14A; Working Voltage: 300V; ComponentLink1Description: Website Link; ComponentLink1URL: https://www.we-online.com/redexpert/article/691242700009?ad; ComponentLink2Description: Datasheet Link; ComponentLink2URL: https://www.we-online.com/redexpert/spec/691242700009?ad; Manufacturer Part Number: 691242700009; Category: Terminal Blocks; Match Code: WR-TBL; Mount: Through Hole; Operating Temperature Max: 120°C; Operating Temperature Min: -30°C; Packaging: Box; Application: Rising Cage Clamp; Number of Pins: 9; Number of Rows: 1; Orientation: Vertical; Pitch: 5mm
footprint 691242700009
pins: 1, 2, 3, 4, 5, 6, 7, 8, 9

## 691242700010
designator J?  (value not drawn)
WR-TBL Series 2427 Vertical Entry, THT, pitch 5mm, 10p; Manufacturer: Wurth Elektronik; Modularity: No; Rated Current: 14A; Working Voltage: 300V; ComponentLink1Description: Website Link; ComponentLink1URL: https://www.we-online.com/redexpert/article/691242700010?ad; ComponentLink2Description: Datasheet Link; ComponentLink2URL: https://www.we-online.com/redexpert/spec/691242700010?ad; Manufacturer Part Number: 691242700010; Category: Terminal Blocks; Match Code: WR-TBL; Mount: Through Hole; Operating Temperature Max: 120°C; Operating Temperature Min: -30°C; Packaging: Box; Application: Rising Cage Clamp; Number of Pins: 10; Number of Rows: 1; Orientation: Vertical; Pitch: 5mm
footprint 691242700010
pins: 1, 2, 3, 4, 5, 6, 7, 8, 9, 10

## 691242710004
designator J?  (value not drawn)
WR-TBL Series 2427 Horizontal Entry Modular, THT, pitch 5mm, 4p; Manufacturer: Wurth Elektronik; Modularity: Yes; Rated Current: 14A; Working Voltage: 300V; ComponentLink1Description: Website Link; ComponentLink1URL: https://www.we-online.com/redexpert/article/691242710004?ad; ComponentLink2Description: Datasheet Link; ComponentLink2URL: https://www.we-online.com/redexpert/spec/691242710004?ad; Manufacturer Part Number: 691242710004; Category: Terminal Blocks; Match Code: WR-TBL; Mount: Through Hole; Operating Temperature Max: 120°C; Operating Temperature Min: -30°C; Packaging: Box; Application: Rising Cage Clamp; Number of Pins: 4; Number of Rows: 1; Orientation: Horizontal; Pitch: 5mm
footprint 691242710004
pins: 1, 2, 3, 4

## 691242710005
designator J?  (value not drawn)
WR-TBL Series 2427 Horizontal Entry Modular, THT, pitch 5mm, 5p; Manufacturer: Wurth Elektronik; Modularity: Yes; Rated Current: 14A; Working Voltage: 300V; ComponentLink1Description: Website Link; ComponentLink1URL: https://www.we-online.com/redexpert/article/691242710005?ad; ComponentLink2Description: Datasheet Link; ComponentLink2URL: https://www.we-online.com/redexpert/spec/691242710005?ad; Manufacturer Part Number: 691242710005; Category: Terminal Blocks; Match Code: WR-TBL; Mount: Through Hole; Operating Temperature Max: 120°C; Operating Temperature Min: -30°C; Packaging: Box; Application: Rising Cage Clamp; Number of Pins: 5; Number of Rows: 1; Orientation: Horizontal; Pitch: 5mm
footprint 691242710005
pins: 1, 2, 3, 4, 5

## 691242710006
designator J?  (value not drawn)
WR-TBL Series 2427 Horizontal Entry Modular, THT, pitch 5mm, 6p; Manufacturer: Wurth Elektronik; Modularity: Yes; Rated Current: 14A; Working Voltage: 300V; ComponentLink1Description: Website Link; ComponentLink1URL: https://www.we-online.com/redexpert/article/691242710006?ad; ComponentLink2Description: Datasheet Link; ComponentLink2URL: https://www.we-online.com/redexpert/spec/691242710006?ad; Manufacturer Part Number: 691242710006; Category: Terminal Blocks; Match Code: WR-TBL; Mount: Through Hole; Operating Temperature Max: 120°C; Operating Temperature Min: -30°C; Packaging: Box; Application: Rising Cage Clamp; Number of Pins: 6; Number of Rows: 1; Orientation: Horizontal; Pitch: 5mm
footprint 691242710006
pins: 1, 2, 3, 4, 5, 6

## 691242710007
designator J?  (value not drawn)
WR-TBL Series 2427 Horizontal Entry Modular, THT, pitch 5mm, 7p; Manufacturer: Wurth Elektronik; Modularity: Yes; Rated Current: 14A; Working Voltage: 300V; ComponentLink1Description: Website Link; ComponentLink1URL: https://www.we-online.com/redexpert/article/691242710007?ad; ComponentLink2Description: Datasheet Link; ComponentLink2URL: https://www.we-online.com/redexpert/spec/691242710007?ad; Manufacturer Part Number: 691242710007; Category: Terminal Blocks; Match Code: WR-TBL; Mount: Through Hole; Operating Temperature Max: 120°C; Operating Temperature Min: -30°C; Packaging: Box; Application: Rising Cage Clamp; Number of Pins: 7; Number of Rows: 1; Orientation: Horizontal; Pitch: 5mm
footprint 691242710007
pins: 1, 2, 3, 4, 5, 6, 7

## 691242710008
designator J?  (value not drawn)
WR-TBL Series 2427 Horizontal Entry Modular, THT, pitch 5mm, 8p; Manufacturer: Wurth Elektronik; Modularity: Yes; Rated Current: 14A; Working Voltage: 300V; ComponentLink1Description: Website Link; ComponentLink1URL: https://www.we-online.com/redexpert/article/691242710008?ad; ComponentLink2Description: Datasheet Link; ComponentLink2URL: https://www.we-online.com/redexpert/spec/691242710008?ad; Manufacturer Part Number: 691242710008; Category: Terminal Blocks; Match Code: WR-TBL; Mount: Through Hole; Operating Temperature Max: 120°C; Operating Temperature Min: -30°C; Packaging: Box; Application: Rising Cage Clamp; Number of Pins: 8; Number of Rows: 1; Orientation: Horizontal; Pitch: 5mm
footprint 691242710008
pins: 1, 2, 3, 4, 5, 6, 7, 8

## 691242710009
designator J?  (value not drawn)
WR-TBL Series 2427 Horizontal Entry Modular, THT, pitch 5mm, 9p; Manufacturer: Wurth Elektronik; Modularity: Yes; Rated Current: 14A; Working Voltage: 300V; ComponentLink1Description: Website Link; ComponentLink1URL: https://www.we-online.com/redexpert/article/691242710009?ad; ComponentLink2Description: Datasheet Link; ComponentLink2URL: https://www.we-online.com/redexpert/spec/691242710009?ad; Manufacturer Part Number: 691242710009; Category: Terminal Blocks; Match Code: WR-TBL; Mount: Through Hole; Operating Temperature Max: 120°C; Operating Temperature Min: -30°C; Packaging: Box; Application: Rising Cage Clamp; Number of Pins: 9; Number of Rows: 1; Orientation: Horizontal; Pitch: 5mm
footprint 691242710009
pins: 1, 2, 3, 4, 5, 6, 7, 8, 9

## 691242710010
designator J?  (value not drawn)
WR-TBL Series 2427 Horizontal Entry Modular, THT, pitch 5mm, 10p; Manufacturer: Wurth Elektronik; Modularity: Yes; Rated Current: 14A; Working Voltage: 300V; ComponentLink1Description: Website Link; ComponentLink1URL: https://www.we-online.com/redexpert/article/691242710010?ad; ComponentLink2Description: Datasheet Link; ComponentLink2URL: https://www.we-online.com/redexpert/spec/691242710010?ad; Manufacturer Part Number: 691242710010; Category: Terminal Blocks; Match Code: WR-TBL; Mount: Through Hole; Operating Temperature Max: 120°C; Operating Temperature Min: -30°C; Packaging: Box; Application: Rising Cage Clamp; Number of Pins: 10; Number of Rows: 1; Orientation: Horizontal; Pitch: 5mm
footprint 691242710010
pins: 1, 2, 3, 4, 5, 6, 7, 8, 9, 10

## 691242800003
designator J?  (value not drawn)
WR-TBL Series 2428 Vertical Entry, THT, pitch 10mm, 3p; Manufacturer: Wurth Elektronik; Modularity: No; Rated Current: 14A; Working Voltage: 300V; ComponentLink1Description: Website Link; ComponentLink1URL: https://www.we-online.com/redexpert/article/691242800003?ad; ComponentLink2Description: Datasheet Link; ComponentLink2URL: https://www.we-online.com/redexpert/spec/691242800003?ad; Manufacturer Part Number: 691242800003; Category: Terminal Blocks; Match Code: WR-TBL; Mount: Through Hole; Operating Temperature Max: 120°C; Operating Temperature Min: -30°C; Packaging: Box; Application: Rising Cage Clamp; Number of Pins: 3; Number of Rows: 1; Orientation: Vertical; Pitch: 10mm
footprint 691242800003
pins: 1, 2, 3

## 691242800004
designator J?  (value not drawn)
WR-TBL Series 2428 Vertical Entry, THT, pitch 10mm, 4p; Manufacturer: Wurth Elektronik; Modularity: No; Rated Current: 14A; Working Voltage: 300V; ComponentLink1Description: Website Link; ComponentLink1URL: https://www.we-online.com/redexpert/article/691242800004?ad; ComponentLink2Description: Datasheet Link; ComponentLink2URL: https://www.we-online.com/redexpert/spec/691242800004?ad; Manufacturer Part Number: 691242800004; Category: Terminal Blocks; Match Code: WR-TBL; Mount: Through Hole; Operating Temperature Max: 120°C; Operating Temperature Min: -30°C; Packaging: Box; Application: Rising Cage Clamp; Number of Pins: 4; Number of Rows: 1; Orientation: Vertical; Pitch: 10mm
footprint 691242800004
pins: 1, 2, 3, 4

## 691242810003
designator J?  (value not drawn)
WR-TBL Series 2428 Horizontal Entry Modular, THT, pitch 10mm, 3p; Manufacturer: Wurth Elektronik; Modularity: No; Rated Current: 14A; Working Voltage: 300V; ComponentLink1Description: Website Link; ComponentLink1URL: https://www.we-online.com/redexpert/article/691242810003?ad; ComponentLink2Description: Datasheet Link; ComponentLink2URL: https://www.we-online.com/redexpert/spec/691242810003?ad; Manufacturer Part Number: 691242810003; Category: Terminal Blocks; Match Code: WR-TBL; Mount: Through Hole; Operating Temperature Max: 120°C; Operating Temperature Min: -30°C; Packaging: Box; Application: Rising Cage Clamp; Number of Pins: 3; Number of Rows: 1; Orientation: Horizontal; Pitch: 10mm
footprint 691242810003
pins: 1, 2, 3

## 691242810004
designator J?  (value not drawn)
WR-TBL Series 2428 Horizontal Entry Modular, THT, pitch 10mm, 4p; Manufacturer: Wurth Elektronik; Modularity: No; Rated Current: 14A; Working Voltage: 300V; ComponentLink1Description: Website Link; ComponentLink1URL: https://www.we-online.com/redexpert/article/691242810004?ad; ComponentLink2Description: Datasheet Link; ComponentLink2URL: https://www.we-online.com/redexpert/spec/691242810004?ad; Manufacturer Part Number: 691242810004; Category: Terminal Blocks; Match Code: WR-TBL; Mount: Through Hole; Operating Temperature Max: 120°C; Operating Temperature Min: -30°C; Packaging: Box; Application: Rising Cage Clamp; Number of Pins: 4; Number of Rows: 1; Orientation: Horizontal; Pitch: 10mm
footprint 691242810004
pins: 1, 2, 3, 4

## 691242910004
designator J?  (value not drawn)
WR-TBL Series 2429 Horizontal Entry Modular, THT, pitch 7.5mm, 4p; Manufacturer: Wurth Elektronik; Modularity: No; Rated Current: 14A; Working Voltage: 300V; ComponentLink1Description: Website Link; ComponentLink1URL: https://www.we-online.com/redexpert/article/691242910004?ad; ComponentLink2Description: Datasheet Link; ComponentLink2URL: https://www.we-online.com/redexpert/spec/691242910004?ad; Manufacturer Part Number: 691242910004; Category: Terminal Blocks; Match Code: WR-TBL; Mount: Through Hole; Operating Temperature Max: 120°C; Operating Temperature Min: -30°C; Packaging: Box; Application: Rising Cage Clamp; Number of Pins: 4; Number of Rows: 1; Orientation: Horizontal; Pitch: 7.5mm
footprint 691242910004
pins: 1, 2, 3, 4

## 691242910005
designator J?  (value not drawn)
WR-TBL Series 2429 Horizontal Entry Modular, THT, pitch 7.5mm, 5p; Manufacturer: Wurth Elektronik; Modularity: No; Rated Current: 14A; Working Voltage: 300V; ComponentLink1Description: Website Link; ComponentLink1URL: https://www.we-online.com/redexpert/article/691242910005?ad; ComponentLink2Description: Datasheet Link; ComponentLink2URL: https://www.we-online.com/redexpert/spec/691242910005?ad; Manufacturer Part Number: 691242910005; Category: Terminal Blocks; Match Code: WR-TBL; Mount: Through Hole; Operating Temperature Max: 120°C; Operating Temperature Min: -30°C; Packaging: Box; Application: Rising Cage Clamp; Number of Pins: 5; Number of Rows: 1; Orientation: Horizontal; Pitch: 7.5mm
footprint 691242910005
pins: 1, 2, 3, 4, 5

## 691242910006
designator J?  (value not drawn)
WR-TBL Series 2429 Horizontal Entry Modular, THT, pitch 7.5mm, 6p; Manufacturer: Wurth Elektronik; Modularity: No; Rated Current: 14A; Working Voltage: 300V; ComponentLink1Description: Website Link; ComponentLink1URL: https://www.we-online.com/redexpert/article/691242910006?ad; ComponentLink2Description: Datasheet Link; ComponentLink2URL: https://www.we-online.com/redexpert/spec/691242910006?ad; Manufacturer Part Number: 691242910006; Category: Terminal Blocks; Match Code: WR-TBL; Mount: Through Hole; Operating Temperature Max: 120°C; Operating Temperature Min: -30°C; Packaging: Box; Application: Rising Cage Clamp; Number of Pins: 6; Number of Rows: 1; Orientation: Horizontal; Pitch: 7.5mm
footprint 691242910006
pins: 1, 2, 3, 4, 5, 6

## 691242910007
designator J?  (value not drawn)
WR-TBL Series 2429 Horizontal Entry Modular, THT, pitch 7.5mm, 7p; Manufacturer: Wurth Elektronik; Modularity: No; Rated Current: 14A; Working Voltage: 300V; ComponentLink1Description: Website Link; ComponentLink1URL: https://www.we-online.com/redexpert/article/691242910007?ad; ComponentLink2Description: Datasheet Link; ComponentLink2URL: https://www.we-online.com/redexpert/spec/691242910007?ad; Manufacturer Part Number: 691242910007; Category: Terminal Blocks; Match Code: WR-TBL; Mount: Through Hole; Operating Temperature Max: 120°C; Operating Temperature Min: -30°C; Packaging: Box; Application: Rising Cage Clamp; Number of Pins: 7; Number of Rows: 1; Orientation: Horizontal; Pitch: 7.5mm
footprint 691242910007
pins: 1, 2, 3, 4, 5, 6, 7